# EAGLE library part SWITCH,DP3T (library QuantumOptics)
DP3T switch
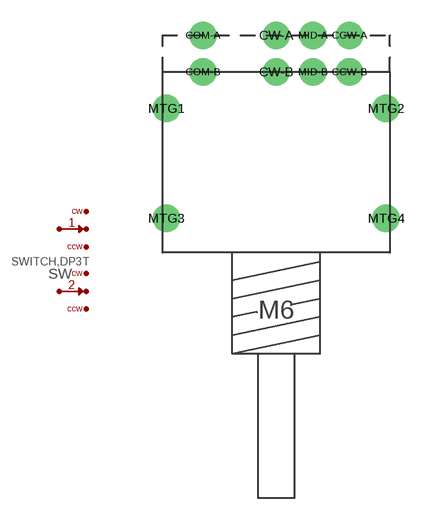
[diagram p155: symbol with the pads of SWITCH,DP3T(NKK,MRB24H); footprint SWITCH,DP3T(NKK,MRB24H)]

Designator prefix SW

## SWITCH,DP3T-NKK,MRB24H  [SWITCH,DP3T(NKK,MRB24H)]
CCW-A  CCW1
CCW-B  CCW2
COM-A  C1
COM-B  C2
CW-A  CW1
CW-B  CW2
MID-A  MID1
MID-B  MID2

## Footprint SWITCH,DP3T(NKK,MRB24H) (pad centres in mm)
NKK MRB24H, DP3T rotary switch, 9.0mm centre to PCB.
drill 1.067 pad 1.905: CCW-A 5.08,2.54; CCW-B 5.08,0; COM-A -5.08,2.54; COM-B -5.08,0; CW-A 0,2.54; CW-B 0,0; MID-A 2.54,2.54; MID-B 2.54,0; MTG1 -7.62,-2.54; MTG2 7.62,-2.54; MTG3 -7.62,-10.16; MTG4 7.62,-10.16